# EAGLE library part TPS54202DDCR (library Labops_Lib_AH)
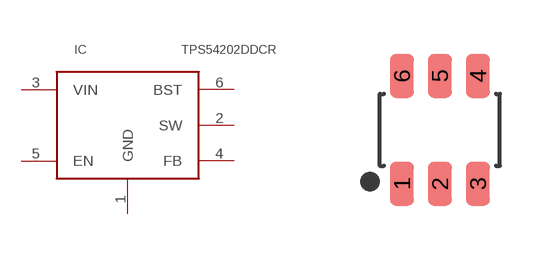
[diagram p72: symbol with the pads of SOT23-6; footprint SOT23-6]

Designator prefix IC

## TPS54202DDCR (DESCRIPTION: 2A 28V SOT-23-6 Sync Buck; LIB_STATUS: Prototype; MFN: TPS54202DDCR; MFR: Texas Instruments; OUR_STOCK: 40; PART_VALUE: TPS54202; PRICE-1: 1.8; SUPPLIER-1: LCSC)  [SOT23-6]
1  GND
2  SW
3  VIN
4  FB
5  EN
6  BST

## Footprint SOT23-6 (pad centres in mm)
smd 0.6 x 1.1: 1 -0.95,-1.35; 2 0,-1.35; 3 0.95,-1.35; 4 0.95,1.35; 5 0,1.35; 6 -0.95,1.35